# Altium footprint library CAPAE105103X102L.PcbLib: 1 footprints
Each footprint in its own frame and in the unit in brackets; x right, y up, seen from the top. Pads: shape width x height; smd on the part's side, far side on the other; paste and mask are expansions set on the pad; w line width, h text height; cw(c..) or ccw(c..) is an arc to the next point about the centre after c.
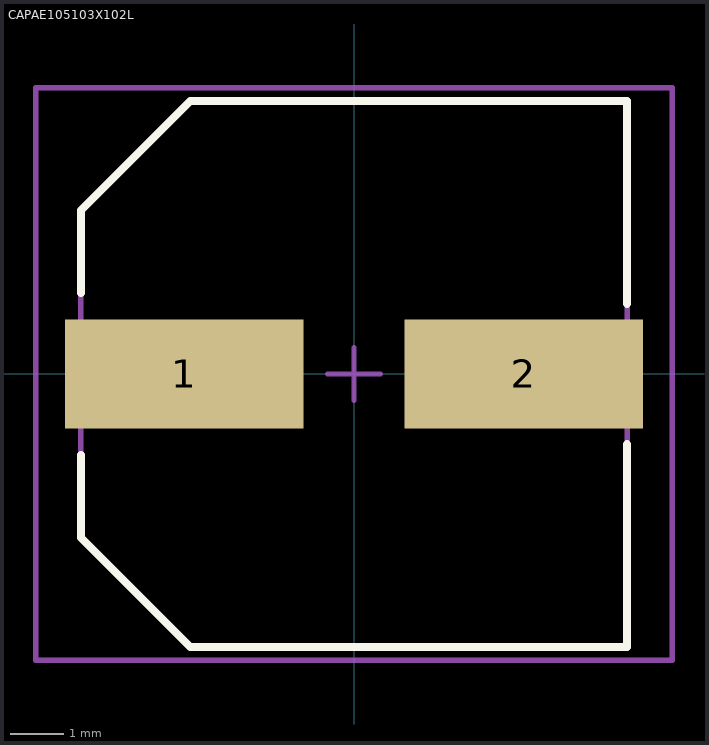
[diagram p0: the footprint, top view; thin cyan lines are the x and y axes]

## CAPAE105103X102L [mm] "Aluminum Electrolytic Capacitor, Body 10.30x10.30x10.20mm, IPC High Density"
height 10.2
pads (2):
  rect 4.5x2.05 smd: 1(-3.2,0) 2(3.2,0)
Top Overlay:
  lines w0.152: -5.15,-1.524 -5.15,-3.087 -3.088,-5.15 5.15,-5.15 5.15,-1.325 ; -5.15,1.524 -5.15,3.087 -3.088,5.15 5.15,5.15 5.15,1.325
Mechanical 13:
  lines w0.1: -5.15,-3.087 -5.15,3.087 -3.088,5.15 5.15,5.15 5.15,-5.15 -3.088,-5.15 -5.15,-3.087
Mechanical 15:
  lines w0.1: -0.5,0 0.5,0 ; 0,-0.5 0,0.5 ; -6,-5.4 6,-5.4 6,5.4 -6,5.4 -6,-5.4
3D body: height 10.2, standoff 0, extent -5.25,-5.15 5.25,5.15